# EAGLE library part BLUETOOTH-HM-13 (library custom_devices)
Bluetooth Specification V4.0 EDR and BLE
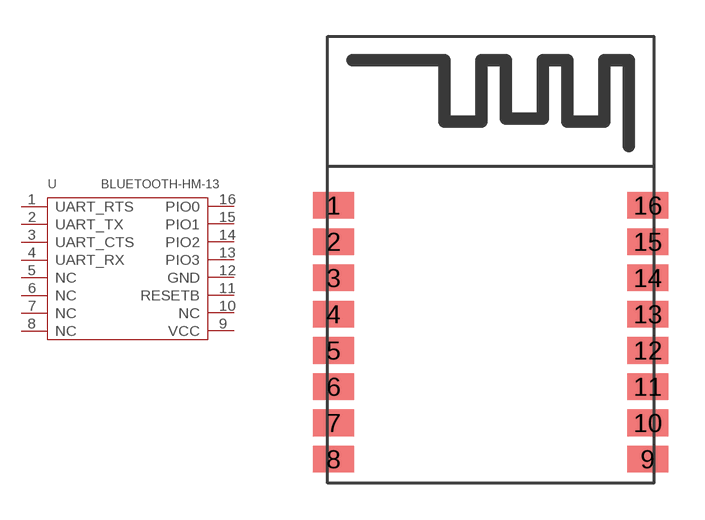
[diagram p1: symbol with the pads of BLUETOOTH-HM-13; footprint BLUETOOTH-HM-13]

Designator prefix U

## BLUETOOTH-HM-13  [BLUETOOTH-HM-13]
1  UART_RTS
2  UART_TX
3  UART_CTS
4  UART_RX
5  NC
6  NC
7  NC
8  NC
9  VCC
10  NC
11  RESETB
12  GND
13  PIO3
14  PIO2
15  PIO1
16  PIO0

## Footprint BLUETOOTH-HM-13 (pad centres in mm)
smd 1.7 x 1.1: 1 -6.5,2.25; 2 -6.5,0.75; 3 -6.5,-0.75; 4 -6.5,-2.25; 5 -6.5,-3.75; 6 -6.5,-5.25; 7 -6.5,-6.75; 8 -6.5,-8.25; 9 6.5,-8.25; 10 6.5,-6.75; 11 6.5,-5.25; 12 6.5,-3.75; 13 6.5,-2.25; 14 6.5,-0.75; 15 6.5,0.75; 16 6.5,2.25